# EAGLE library part D25S33E4PA00LF (library D25S33E4PA00LF)
D-SUB STANDARD BOARD MOUNT CONNECTORS Source: Datasheet <https://cdn.amphenol-cs.com/media/wysiwyg/files/drawing/c01-8646-0010.pdf>
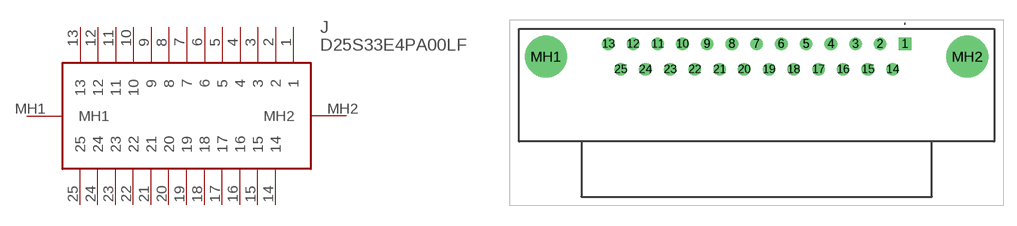
[diagram p0: symbol with the pads of D25S33E4PA00LF; footprint D25S33E4PA00LF]

Designator prefix J

## D25S33E4PA00LF (Description: D-SUB STANDARD BOARD MOUNT CONNECTORS; Height: 12.96mm; Manufacturer_Name: Amphenol Communications Solutions; Manufacturer_Part_Number: D25S33E4PA00LF)  [D25S33E4PA00LF]
1  1
2  2
3  3
4  4
5  5
6  6
7  7
8  8
9  9
10  10
11  11
12  12
13  13
14  14
15  15
16  16
17  17
18  18
19  19
20  20
21  21
22  22
23  23
24  24
25  25
MH1  MH1
MH2  MH2

## Footprint D25S33E4PA00LF (pad centres in mm)
D25S33E4PA00LF-2
drill 0.9 pad 1.4 square: 1 0,0
drill 0.9 pad 1.4: 2 -2.76,0; 3 -5.52,0; 4 -8.28,0; 5 -11.04,0; 6 -13.8,0; 7 -16.56,0; 8 -19.32,0; 9 -22.08,0; 10 -24.84,0; 11 -27.6,0; 12 -30.36,0; 13 -33.12,0; 14 -1.38,-2.84; 15 -4.14,-2.84; 16 -6.9,-2.84; 17 -9.66,-2.84; 18 -12.42,-2.84; 19 -15.18,-2.84; 20 -17.94,-2.84; 21 -20.7,-2.84; 22 -23.46,-2.84; 23 -26.22,-2.84; 24 -28.98,-2.84; 25 -31.74,-2.84
drill 3.1 pad 4.65: MH1 -40.08,-1.42; MH2 6.96,-1.42